# Altium footprint library SOP-6.PcbLib: 1 footprints
Each footprint in its own frame and in the unit in brackets; x right, y up, seen from the top. Pads: shape width x height; smd on the part's side, far side on the other; paste and mask are expansions set on the pad; w line width, h text height; cw(c..) or ccw(c..) is an arc to the next point about the centre after c.
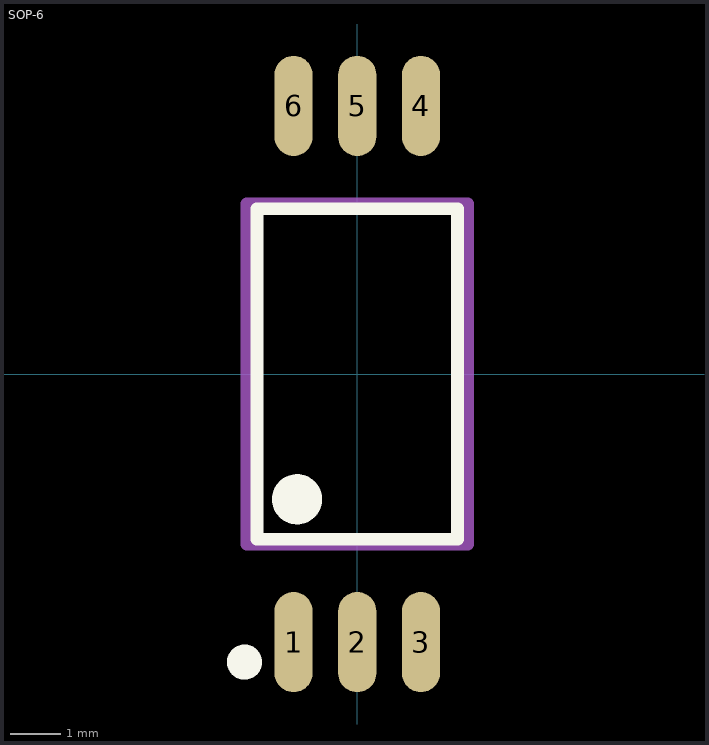
[diagram p0: the footprint, top view; thin cyan lines are the x and y axes]

## SOP-6 [mm]
pads (6):
  oval 0.76x2 smd: 1(-1.27,-5.35) 2(0,-5.35) 3(1.27,-5.35) 4(1.27,5.35) 5(0,5.35) 6(-1.27,5.35)
Top Overlay:
  circle w0.5: c-1.2,-2.5 r0.25
  circle w0.4: c-2.25,-5.75 r0.15
  lines w0.254: -2,-3.3 -2,3.3 2,3.3 2,-3.3 -2,-3.3
Mechanical 13:
  lines w0.254: -2.2,-3.4 -2.2,3.4 2.2,3.4 2.2,-3.4 -2.2,-3.4